# Altium schematic symbol library S-202T.SchLib: 1 symbol
Pins are listed as number, name and electrical type; pins without a type are passive.

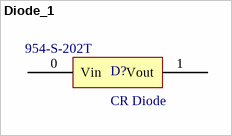
[diagram p0: symbol Diode_1]

## Diode_1
designator D?, comment CR Diode  Supplier Part Number 1: 954-S-202T
Current Regulator Diodes 100V 2mA; Supplier 1: Mouser
footprint CR Diode - duplicate1
pins: 0 Vin "S-202T Current Regulating Diode", 1 Vout